# Altium schematic symbol library customParts.SchLib: 4 symbols
Pins are listed as number, name and electrical type; pins without a type are passive.

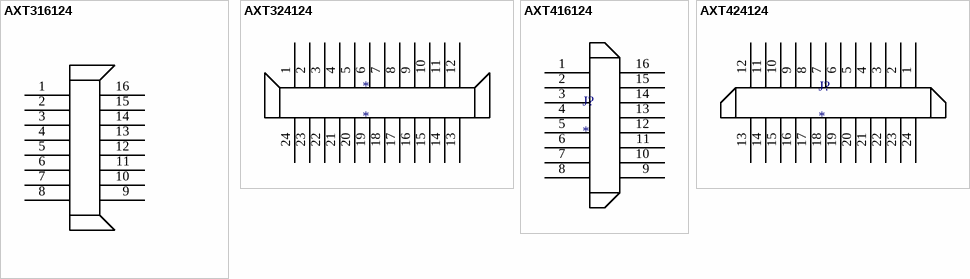
[diagram p0: symbols AXT316124 to AXT424124]

## AXT316124
designator J?
Female socket 0.4mm pitch 16 pins
footprint AXT316124
pins: 1, 2, 3, 4, 5, 6, 7, 8, 9, 10, 11, 12, 13, 14, 15, 16

## AXT324124
designator *
footprint AXT324124
pins: 1, 2, 3, 4, 5, 6, 7, 8, 9, 10, 11, 12, 13, 14, 15, 16, 17, 18, 19, 20, 21, 22, 23, 24

## AXT416124
designator J?
Male header conn 0.4 mm pitch 16 pins
footprint AXT416124 (male header 16 pins)
pins: 1, 2, 3, 4, 5, 6, 7, 8, 9, 10, 11, 12, 13, 14, 15, 16

## AXT424124
designator J?
footprint AXT424124 (24 pin 0.4mm pitch)
pins: 1, 2, 3, 4, 5, 6, 7, 8, 9, 10, 11, 12, 13, 14, 15, 16, 17, 18, 19, 20, 21, 22, 23, 24